# Altium footprint library header2x7.PcbLib: 1 footprints
Each footprint in its own frame and in the unit in brackets; x right, y up, seen from the top. Pads: shape width x height; smd on the part's side, far side on the other; paste and mask are expansions set on the pad; w line width, h text height; cw(c..) or ccw(c..) is an arc to the next point about the centre after c.
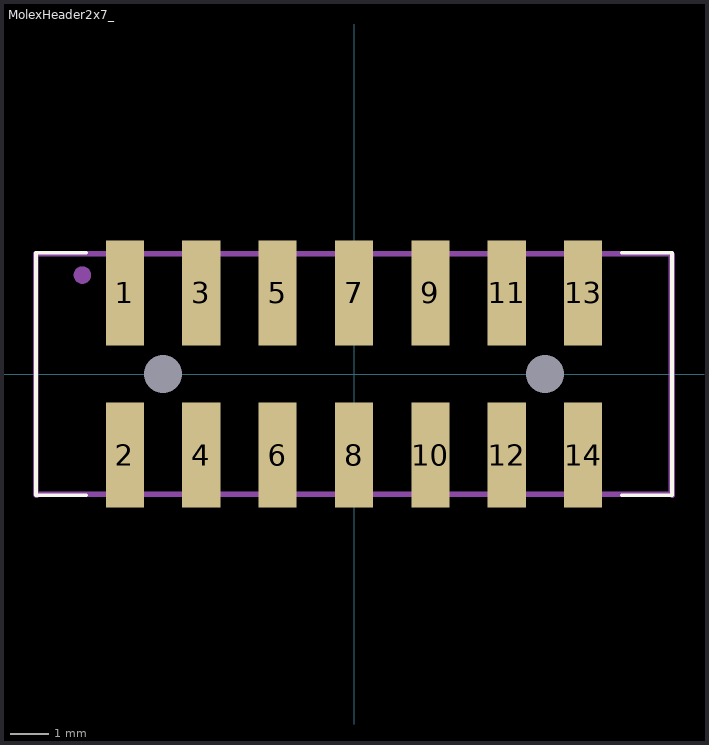
[diagram p0: the footprint, top view; thin cyan lines are the x and y axes]

## MolexHeader2x7_ [mm]
pads (16):
  rect 1x2.75 smd: 1(-6,2.125) 2(-6,-2.125) 3(-4,2.125) 4(-4,-2.125) 5(-2,2.125) 6(-2,-2.125) 7(0,2.125) 8(0,-2.125) 9(2,2.125) 10(2,-2.125) 11(4,2.125) 12(4,-2.125) 13(6,2.125) 14(6,-2.125)
  round 0 hole 1 unplated: 16(5,0) 17(-5,0)
Top Overlay:
  lines w0.1: -7.01,-3.175 -8.325,-3.175 -8.325,3.175 -7.01,3.175 ; 7.01,-3.175 8.325,-3.175 8.325,3.175 7.01,3.175
Mechanical 29:
  circle w0.254: c-7.112,2.591 r0.102
  lines w0.15: -8.306,-3.175 -8.331,-3.15 ; 8.331,-3.175 8.331,3.124 ; -8.331,-3.15 8.306,-3.15 8.306,3.15 -8.331,3.15 -8.331,-3.15
  text ".Designator" at -3.226,-0.457 h1.52
3D body "878321420.stp": height 7.6, standoff -0.75, extent -8.382,-3.15 8.268,3.15